# Altium schematic symbol library SCH - DIODES - Bridge Rectifier.SCHLIB: 1 symbol
Pins are listed as number, name and electrical type; pins without a type are passive.

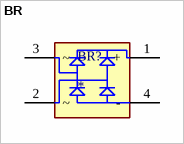
[diagram p0: symbol BR]

## BR
designator BR?
Bridge Rectifier; Manufacturer_Name: PANJIT; Manufacturer_Part_Number: GBU1008LV_T0_00601; Description: Bridge Rectifiers 10A/800V low vf bridge; Datasheet Link: https://www.panjit.com.tw/en/Product/downloadPDF/GBU1008LV; Height: 21.55mm; Mouser Part Number: 241-GBU1008LVT000601; Mouser Price/Stock: https://www.mouser.co.uk/ProductDetail/Panjit/GBU1008LV_T0_00601?qs=vvQtp7zwQdN7y9oaUrZldw%3D%3D
footprint GBU1008LV_T0_00601
pins: 1 +, 2 ~, 3 ~, 4 -